# Altium schematic symbol library L6902D.SchLib: 1 symbol
Pins are listed as number, name and electrical type; pins without a type are passive.

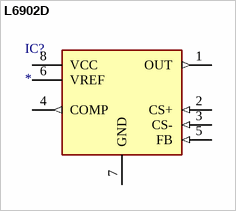
[diagram p0: symbol L6902D]

## L6902D
designator IC?
Integrated Circuit; Manufacturer_Name: STMicroelectronics; Manufacturer_Part_Number: L6902D; Datasheet Link: http://www.st.com/st-web-ui/static/active/en/resource/technical/document/datasheet/CD00002179.pdf; Height: 1.75mm; Arrow Part Number: L6902D; Mouser Part Number: 511-L6902D; Mouser Price/Stock: https://www.mouser.com/Search/Refine.aspx?Keyword=511-L6902D
footprint SOIC127P600X175-8N
pins: 1 OUT (out), 2 CS+ (in), 3 CS- (in), 4 COMP (out), 5 FB (in), 6 VREF (power), 7 GND (power), 8 VCC (power)